# EAGLE library part AVRISP (library fablab)
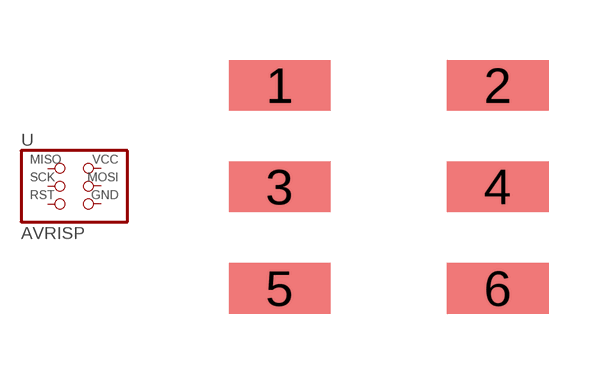
[diagram p1: symbol with the pads of 2X03SMD; footprint 2X03SMD]

Designator prefix -

## AVRISPSMD  [2X03SMD]
1  MISO  pas
2  VCC  pas
3  SCK  pas
4  MOSI  pas
5  RST  pas
6  GND  pas

## Footprint 2X03SMD (pad centres in mm)
2x5SMD
smd 2.54 x 1.27: 1 -2.54,2.54; 2 2.92,2.54; 3 -2.54,0; 4 2.92,0; 5 -2.54,-2.54; 6 2.92,-2.54